# Altium schematic symbol library JSM25_S.SchLib: 1 symbol
Pins are listed as number, name and electrical type; pins without a type are passive.

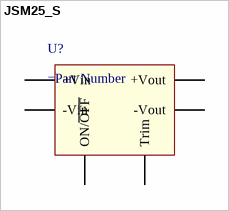
[diagram p0: symbol JSM25_S]

## JSM25_S
designator U?
XP Power J Series JSM25 DC/DC Converter
pins: 1 +Vin, 2 -Vin, 3 +Vout, 4 Trim, 5 -Vout, 6 ON/~{OFF}